# Altium footprint library GPSR_v2.PcbLib: 22 footprints (part 2 of 2)
Each footprint in its own frame and in the unit in brackets; x right, y up, seen from the top. Pads: shape width x height; smd on the part's side, far side on the other; paste and mask are expansions set on the pad; w line width, h text height; cw(c..) or ccw(c..) is an arc to the next point about the centre after c.
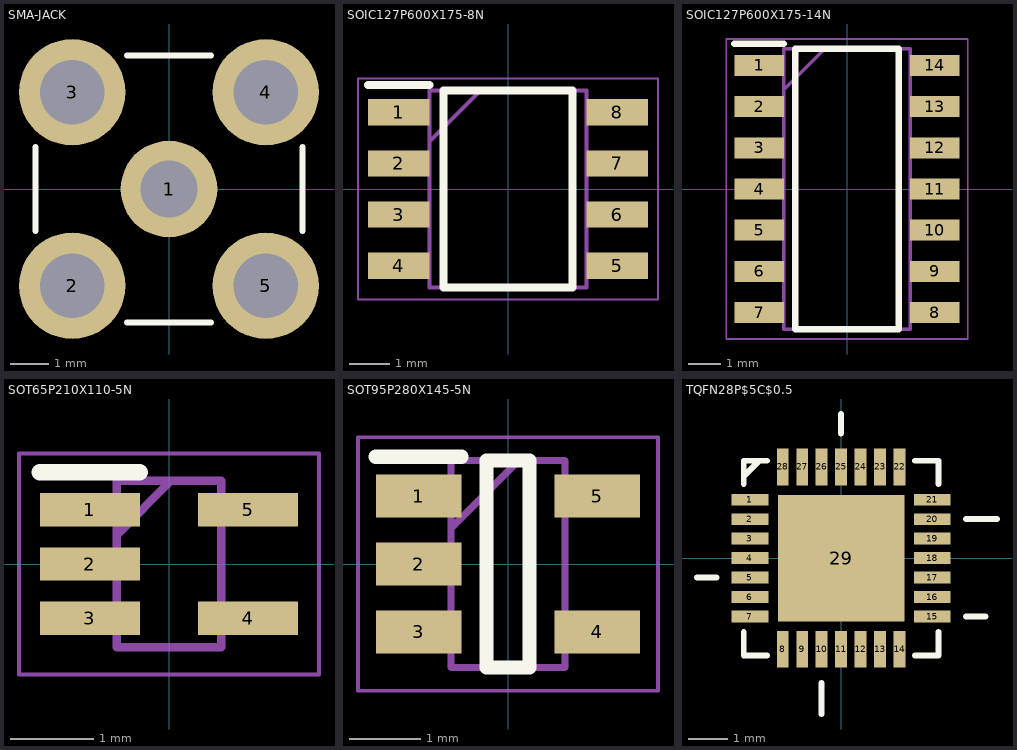
[diagram p1: the footprints below, top view; thin cyan lines are the x and y axes]

## SMA-JACK [mil]
pads (5):
  round 100 hole 59: 1(0,0)
  round 110 hole 67: 2(-100,-100) 3(-100,100) 4(100,100) 5(100,-100)
Top Overlay:
  lines w6: -137.8,-43.31 -137.8,43.31 ; -43.31,-137.8 43.31,-137.8 ; -43.31,137.8 43.31,137.8 ; 137.8,-43.31 137.8,43.31

## SOIC127P600X175-8N [mm]
pads (8):
  rect 1.525x0.65 smd: 1(-2.712,1.905) 2(-2.712,0.635) 3(-2.712,-0.635) 4(-2.712,-1.905) 5(2.712,-1.905) 6(2.712,-0.635) 7(2.712,0.635) 8(2.712,1.905)
Top Overlay:
  lines w0.2: -3.475,2.58 -1.95,2.58 ; -1.6,-2.45 -1.6,2.45 1.6,2.45 1.6,-2.45 -1.6,-2.45
Mechanical 13:
  lines w0.1: -1.95,1.18 -0.68,2.45 ; -1.95,-2.45 -1.95,2.45 1.95,2.45 1.95,-2.45 -1.95,-2.45
Mechanical 15:
  lines w0.05: -3.725,-2.75 -3.725,2.75 3.725,2.75 3.725,-2.75 -3.725,-2.75
3D body "MAX961ESA+.stp": height 1.75, standoff 0, extent -3,-2.45 3,2.45

## SOIC127P600X175-14N [mm]
pads (14):
  rect 1.525x0.65 smd: 1(-2.712,3.81) 2(-2.712,2.54) 3(-2.712,1.27) 4(-2.712,0) 5(-2.712,-1.27) 6(-2.712,-2.54) 7(-2.712,-3.81) 8(2.712,-3.81) 9(2.712,-2.54) 10(2.712,-1.27) 11(2.712,0) 12(2.712,1.27) 13(2.712,2.54) 14(2.712,3.81)
Top Overlay:
  lines w0.2: -3.475,4.485 -1.95,4.485 ; -1.6,-4.325 1.6,-4.325 1.6,4.325 -1.6,4.325 -1.6,-4.325
Mechanical 13:
  lines w0.1: -1.95,3.055 -0.68,4.325 ; -1.95,-4.325 1.95,-4.325 1.95,4.325 -1.95,4.325 -1.95,-4.325
Mechanical 15:
  lines w0.05: -3.725,-4.625 3.725,-4.625 3.725,4.625 -3.725,4.625 -3.725,-4.625
3D body "SN74LV07ADRG4.stp": height 1.75, standoff 0, extent -3.013,-4.325 3.013,4.325

## SOT65P210X110-5N [mm]
pads (5):
  rect 1.2x0.4 smd: 1(-0.95,0.65) 2(-0.95,0) 3(-0.95,-0.65) 4(0.95,-0.65) 5(0.95,0.65)
Top Overlay:
  lines w0.2: -1.55,1.1 -0.35,1.1
Mechanical 13:
  lines w0.1: -0.625,0.35 0.025,1 ; -0.625,-1 0.625,-1 0.625,1 -0.625,1 -0.625,-1
Mechanical 15:
  lines w0.05: -1.8,-1.325 1.8,-1.325 1.8,1.325 -1.8,1.325 -1.8,-1.325
3D body "SN74AUP1T17DCKR.stp": height 1, standoff 0, extent -1.05,-1 1.05,1

## SOT95P280X145-5N [mm]
pads (5):
  rect 1.2x0.6 smd: 1(-1.25,0.95) 2(-1.25,0) 3(-1.25,-0.95) 4(1.25,-0.95) 5(1.25,0.95)
Top Overlay:
  lines w0.2: -1.85,1.5 -0.65,1.5 ; -0.3,-1.45 -0.3,1.45 0.3,1.45 0.3,-1.45 -0.3,-1.45
Mechanical 13:
  lines w0.1: -0.8,0.5 0.15,1.45 ; -0.8,-1.45 -0.8,1.45 0.8,1.45 0.8,-1.45 -0.8,-1.45
Mechanical 15:
  lines w0.05: -2.1,-1.775 -2.1,1.775 2.1,1.775 2.1,-1.775 -2.1,-1.775
3D body "SN74AUP1G17DBVR.stp": height 1.2, standoff 0, extent -1.4,-1.45 1.4,1.45

## TQFN28P$5C$0.5 [mil]
pads (29):
  rect 37x12 smd: 1(-92.13,59.06) 2(-92.13,39.37) 3(-92.13,19.68) 4(-92.13,0) 5(-92.13,-19.68) 6(-92.13,-39.37) 7(-92.13,-59.06) 15(92.13,-59.06) 16(92.13,-39.37) 17(92.13,-19.68) 18(92.13,0) 19(92.13,19.68) 20(92.13,39.37) 21(92.13,59.06)
  rect 12x37 smd: 8(-59.06,-92.13) 9(-39.37,-92.13) 10(-19.68,-92.13) 11(0,-92.13) 12(19.68,-92.13) 13(39.37,-92.13) 14(59.06,-92.13) 22(59.06,92.13) 23(39.37,92.13) 24(19.68,92.13) 25(0,92.13) 26(-19.68,92.13) 27(-39.37,92.13) 28(-59.06,92.13)
  rect 128x128 smd: 29(0,0)
Top Overlay:
  lines w6: -145.67,-19.68 -125.98,-19.68 ; -98.43,-74.8 -98.43,-98.43 -74.8,-98.43 ; -98.43,74.8 -98.43,98.43 -74.8,98.43 ; -98.43,82.68 -82.68,98.43 ; -19.68,-157.48 -19.68,-125.98 ; 0,125.98 0,145.67 ; 74.8,-98.43 98.43,-98.43 98.43,-74.8 ; 74.8,98.43 98.43,98.43 98.43,74.8 ; 125.98,-59.06 145.67,-59.06 ; 125.98,39.37 157.48,39.37